# Altium footprint library SXN.PcbLib: 3 footprints
Each footprint in its own frame and in the unit in brackets; x right, y up, seen from the top. Pads: shape width x height; smd on the part's side, far side on the other; paste and mask are expansions set on the pad; w line width, h text height; cw(c..) or ccw(c..) is an arc to the next point about the centre after c.
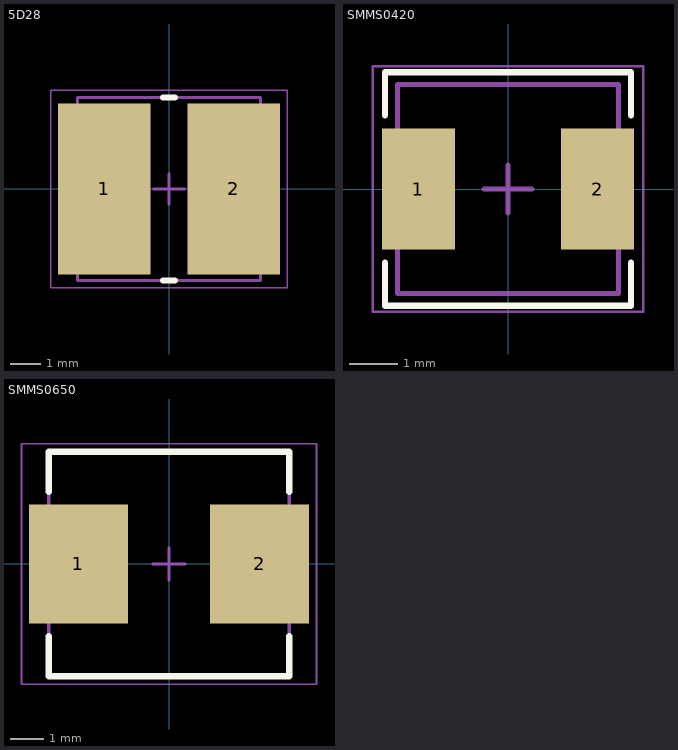
[diagram p0: the footprints below, top view; thin cyan lines are the x and y axes]

## 5D28 [mm] "Precision Wire Wound Inductor, 2-Leads, Body 6.00x6.00mm, IPC Medium Density"
height 3
pads (2):
  rect 3.05x5.6 smd: 1(-2.125,0) 2(2.125,0)
Top Overlay:
  lines w0.2: -0.2,-3 0.2,-3 ; -0.2,3 0.2,3
Top Designator:
  text ".Designator" at -5.998,-0.4 h1.2
Mechanical 13:
  lines w0.1: -3,-3 3,-3 3,3 -3,3 -3,-3
Mechanical 15:
  lines w0.05: -3.875,-3.25 3.875,-3.25 3.875,3.25 -3.875,3.25 -3.875,-3.25
  lines w0.1: -0.5,0 0.5,0 ; 0,-0.5 0,0.5
3D body "INDP6060X30N.step": height 3.1, standoff 0, extent -3.1,-3 3.1,3

## SMMS0420 [mm]
pads (2):
  rect 1.5x2.5 smd: 1(-1.85,0) 2(1.85,0)
Top Overlay:
  lines w0.127: -2.54,-1.524 -2.54,-2.413 2.54,-2.413 2.54,-1.524 ; -2.54,1.524 -2.54,2.413 2.54,2.413 2.54,1.524
Top Designator:
  text ".Designator" at -5.998,-0.4 h1.2
Mechanical 13:
  lines w0.1: -2.286,-2.159 2.286,-2.159 2.286,2.159 -2.286,2.159 -2.286,-2.159
Mechanical 15:
  lines w0.05: -2.794,-2.54 2.794,-2.54 2.794,2.54 -2.794,2.54 -2.794,-2.54
  lines w0.1: -0.5,0 0.5,0 ; 0,-0.5 0,0.5
3D body "IND_FXL0420_CMT.step": height 2.01, standoff 0, extent -2.375,-2.222 2.375,2.222

## SMMS0650 [mm] "Precision Wire Wound Inductor, 2-Leads, Body 7.00x6.60mm, IPC Medium Density"
height 5
pads (2):
  rect 3x3.6 smd: 1(-2.75,0) 2(2.75,0)
Top Overlay:
  lines w0.2: -3.65,-2.2 -3.65,-3.4 3.65,-3.4 3.65,-2.2 ; -3.65,2.2 -3.65,3.4 3.65,3.4 3.65,2.2
Top Designator:
  text ".Designator" at -5.998,-0.4 h1.2
Mechanical 13:
  lines w0.1: -3.65,-3.4 -3.65,3.4 3.65,3.4 3.65,-3.4 -3.65,-3.4
Mechanical 15:
  lines w0.05: -4.475,-3.65 -4.475,3.65 4.475,3.65 4.475,-3.65 -4.475,-3.65
  lines w0.1: -0.5,0 0.5,0 ; 0,-0.5 0,0.5
3D body "CIP0650.step": height 5.2, standoff 0, extent -3.8,-3.375 3.8,3.375